# EAGLE library part PIN32 (library pin32)
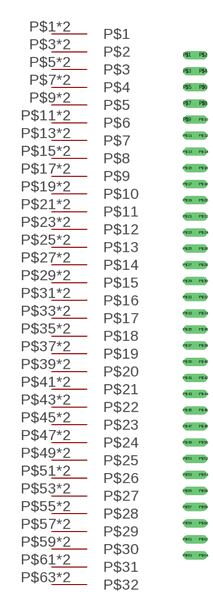
[diagram p0: symbol with the pads of PIN32; footprint PIN32]

Designator prefix -

## PIN32  [PIN32]
P$1  P$1
P$2  P$1
P$3  P$2
P$4  P$2
P$5  P$3
P$6  P$3
P$7  P$4
P$8  P$4
P$9  P$5
P$10  P$5
P$11  P$6
P$12  P$6
P$13  P$7
P$14  P$7
P$15  P$8
P$16  P$8
P$17  P$9
P$18  P$9
P$19  P$10
P$20  P$10
P$21  P$11
P$22  P$11
P$23  P$12
P$24  P$12
P$25  P$13
P$26  P$13
P$27  P$14
P$28  P$14
P$29  P$15
P$30  P$15
P$31  P$16
P$32  P$16
P$33  P$17
P$34  P$17
P$35  P$18
P$36  P$18
P$37  P$19
P$38  P$19
P$39  P$20
P$40  P$20
P$41  P$21
P$42  P$21
P$43  P$22
P$44  P$22
P$45  P$23
P$46  P$23
P$47  P$24
P$48  P$24
P$49  P$25
P$50  P$25
P$51  P$26
P$52  P$26
P$53  P$27
P$54  P$27
P$55  P$28
P$56  P$28
P$57  P$29
P$58  P$29
P$59  P$30
P$60  P$30
P$61  P$31
P$62  P$31
P$63  P$32
P$64  P$32

## Footprint PIN32 (pad centres in mm)
drill 0.8 offset: P$1 0,0; P$2 2.54,0; P$3 0,-2.54; P$4 2.54,-2.54; P$5 0,-5.08; P$6 2.54,-5.08; P$7 0,-7.62; P$8 2.54,-7.62; P$9 0,-10.16; P$10 2.54,-10.16; P$11 0,-12.7; P$12 2.54,-12.7; P$13 0,-15.24; P$14 2.54,-15.24; P$15 0,-17.78; P$16 2.54,-17.78; P$17 0,-20.32; P$18 2.54,-20.32; P$19 0,-22.86; P$20 2.54,-22.86; P$21 0,-25.4; P$22 2.54,-25.4; P$23 0,-27.94; P$24 2.54,-27.94; P$25 0,-30.48; P$26 2.54,-30.48; P$27 0,-33.02; P$28 2.54,-33.02; P$29 0,-35.56; P$30 2.54,-35.56; P$31 0,-38.1; P$32 2.54,-38.1; P$33 0,-40.64; P$34 2.54,-40.64; P$35 0,-43.18; P$36 2.54,-43.18; P$37 0,-45.72; P$38 2.54,-45.72; P$39 0,-48.26; P$40 2.54,-48.26; P$41 0,-50.8; P$42 2.54,-50.8; P$43 0,-53.34; P$44 2.54,-53.34; P$45 0,-55.88; P$46 2.54,-55.88; P$47 0,-58.42; P$48 2.54,-58.42; P$49 0,-60.96; P$50 2.54,-60.96; P$51 0,-63.5; P$52 2.54,-63.5; P$53 0,-66.04; P$54 2.54,-66.04; P$55 0,-68.58; P$56 2.54,-68.58; P$57 0,-71.12; P$58 2.54,-71.12; P$59 0,-73.66; P$60 2.54,-73.66; P$61 0,-76.2; P$62 2.54,-76.2; P$63 0,-78.74; P$64 2.54,-78.74